# EAGLE library part SPX29302 (library Elecrow_IC)
3A High Current,Low Dropout Voltage Regulator http://www.datasheetcatalog.org/datasheet/sipex/SPX29300T-2.5_TR.pdf
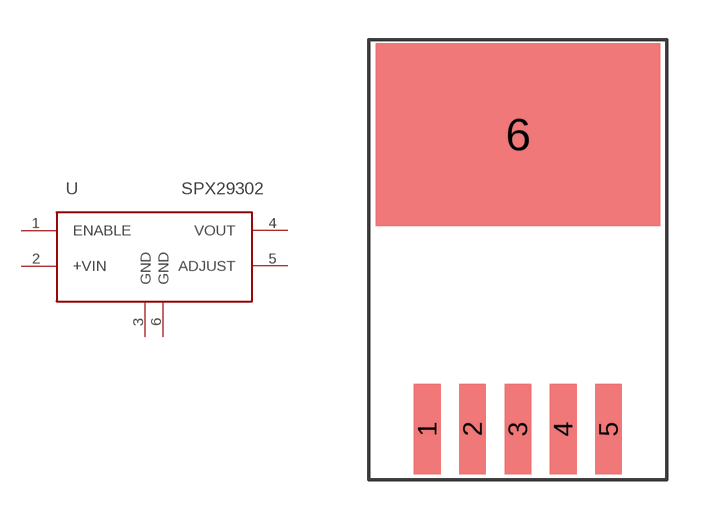
[diagram p9: symbol with the pads of TO-263-5-11.2X16.5; footprint TO-263-5-11.2X16.5]

Designator prefix U

## SPX29302-TO-263-5  [TO-263-5-11.2X16.5]
1  ENABLE
2  +VIN
3  GND
4  VOUT
5  ADJUST
6  GND

## Footprint TO-263-5-11.2X16.5 (pad centres in mm)
smd 1 x 3.4: 1 -3.4,-11.06; 2 -1.7,-11.06; 3 0,-11.06; 4 1.7,-11.06; 5 3.4,-11.06
smd 10.67 x 6.86: 6 0,0